# EAGLE library part TRIAD-TY-145P (library nma-eagle)
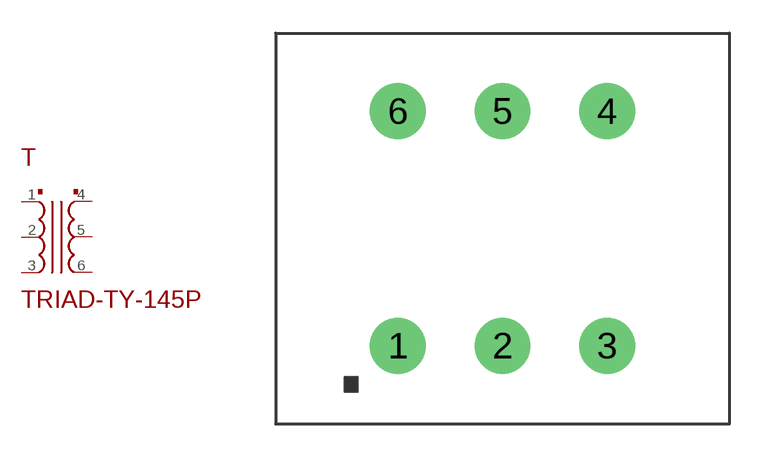
[diagram p13: symbol with the pads of TRIAD-TY-145P; footprint TRIAD-TY-145P]

Designator prefix T

## TRIAD-TY-145P  [TRIAD-TY-145P]
1  1  pas
2  2  pas
3  3  pas
4  4  pas
5  5  pas
6  6  pas

## Footprint TRIAD-TY-145P (pad centres in mm)
drill 1.524 pad 2.54: 1 -4.75,-5.334; 2 0,-5.334; 3 4.75,-5.334; 4 4.75,5.334; 5 0,5.334; 6 -4.75,5.334